# EAGLE library part MSP430G2553?32 (library ElevenDroids - ICs)
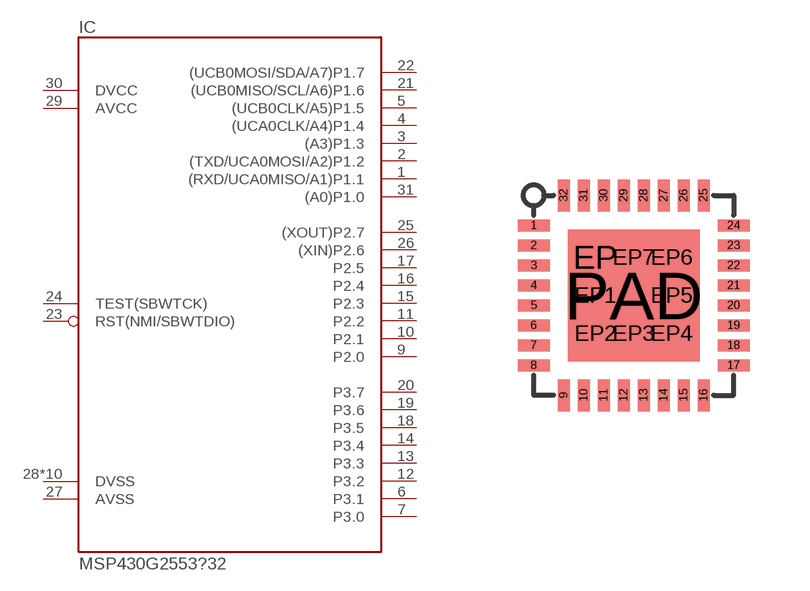
[diagram p12: symbol with the pads of QFN32_5X5; footprint QFN32_5X5]

Designator prefix IC

## MSP430G2553IRHB32  [QFN32_5X5]
1  (RXD/UCA0MISO/A1)P1.1
2  (TXD/UCA0MOSI/A2)P1.2
3  (A3)P1.3
4  (UCA0CLK/A4)P1.4
5  (UCB0CLK/A5)P1.5
6  P3.1
7  P3.0
9  P2.0
10  P2.1
11  P2.2
12  P3.2
13  P3.3
14  P3.4
15  P2.3
16  P2.4
17  P2.5
18  P3.5
19  P3.6
20  P3.7
21  (UCB0MISO/SCL/A6)P1.6
22  (UCB0MOSI/SDA/A7)P1.7
23  RST(NMI/SBWTDIO)
24  TEST(SBWTCK)
25  (XOUT)P2.7
26  (XIN)P2.6
27  AVSS  pwr
28  DVSS  pwr
29  AVCC  pwr
30  DVCC  pwr
31  (A0)P1.0
EP  DVSS  pwr
EP1  DVSS  pwr
EP2  DVSS  pwr
EP3  DVSS  pwr
EP4  DVSS  pwr
EP5  DVSS  pwr
EP6  DVSS  pwr
EP7  DVSS  pwr
PAD  DVSS  pwr

## Footprint QFN32_5X5 (pad centres in mm)
smd 0.8 x 0.3: 1 -2.5,1.75; 2 -2.5,1.25; 3 -2.5,0.75; 4 -2.5,0.25; 5 -2.5,-0.25; 6 -2.5,-0.75; 7 -2.5,-1.25; 8 -2.5,-1.75; 17 2.5,-1.75; 18 2.5,-1.25; 19 2.5,-0.75; 20 2.5,-0.25; 21 2.5,0.25; 22 2.5,0.75; 23 2.5,1.25; 24 2.5,1.75
smd 0.3 x 0.8: 9 -1.75,-2.5; 10 -1.25,-2.5; 11 -0.75,-2.5; 12 -0.25,-2.5; 13 0.25,-2.5; 14 0.75,-2.5; 15 1.25,-2.5; 16 1.75,-2.5; 25 1.75,2.5; 26 1.25,2.5; 27 0.75,2.5; 28 0.25,2.5; 29 -0.25,2.5; 30 -0.75,2.5; 31 -1.25,2.5; 32 -1.75,2.5
drill 0.381: EP -0.953,0.953; EP1 -0.953,0; EP2 -0.953,-0.953; EP3 0,-0.953; EP4 0.953,-0.953; EP5 0.953,0; EP6 0.953,0.953; EP7 0,0.953
smd 3.3 x 3.3: PAD 0,0